# EAGLE library part MOTOR_DRIVER_L293D (library robot)
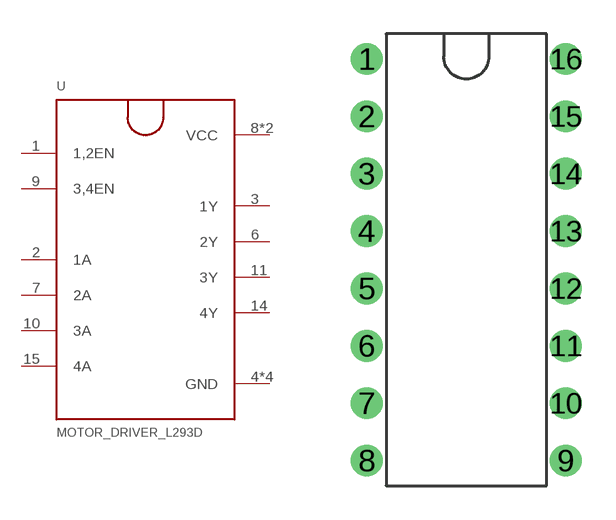
[diagram p0: symbol with the pads of MOTOR_DRIVER; footprint MOTOR_DRIVER]

Designator prefix U

## MOTOR_DRIVER_L293D  [MOTOR_DRIVER]
1  1,2EN
2  1A
3  1Y
4  GND
5  GND
6  2Y
7  2A
8  VCC  pwr
9  3,4EN
10  3A
11  3Y
12  GND
13  GND
14  4Y
15  4A
16  VCC  pwr

## Footprint MOTOR_DRIVER (pad centres in mm)
drill 0.9 pad 1.25: 1 -4.4,8.89; 2 -4.4,6.35; 3 -4.4,3.81; 4 -4.4,1.27; 5 -4.4,-1.27; 6 -4.4,-3.81; 7 -4.4,-6.35; 8 -4.4,-8.89; 9 4.4,-8.89; 10 4.4,-6.35; 11 4.4,-3.81; 12 4.4,-1.27; 13 4.4,1.27; 14 4.4,3.81; 15 4.4,6.35; 16 4.4,8.89